# Altium schematic symbol library LIB_ADAPTONE_EMILE_LAPLANTE.SchLib: 4 symbols
Pins are listed as number, name and electrical type; pins without a type are passive.

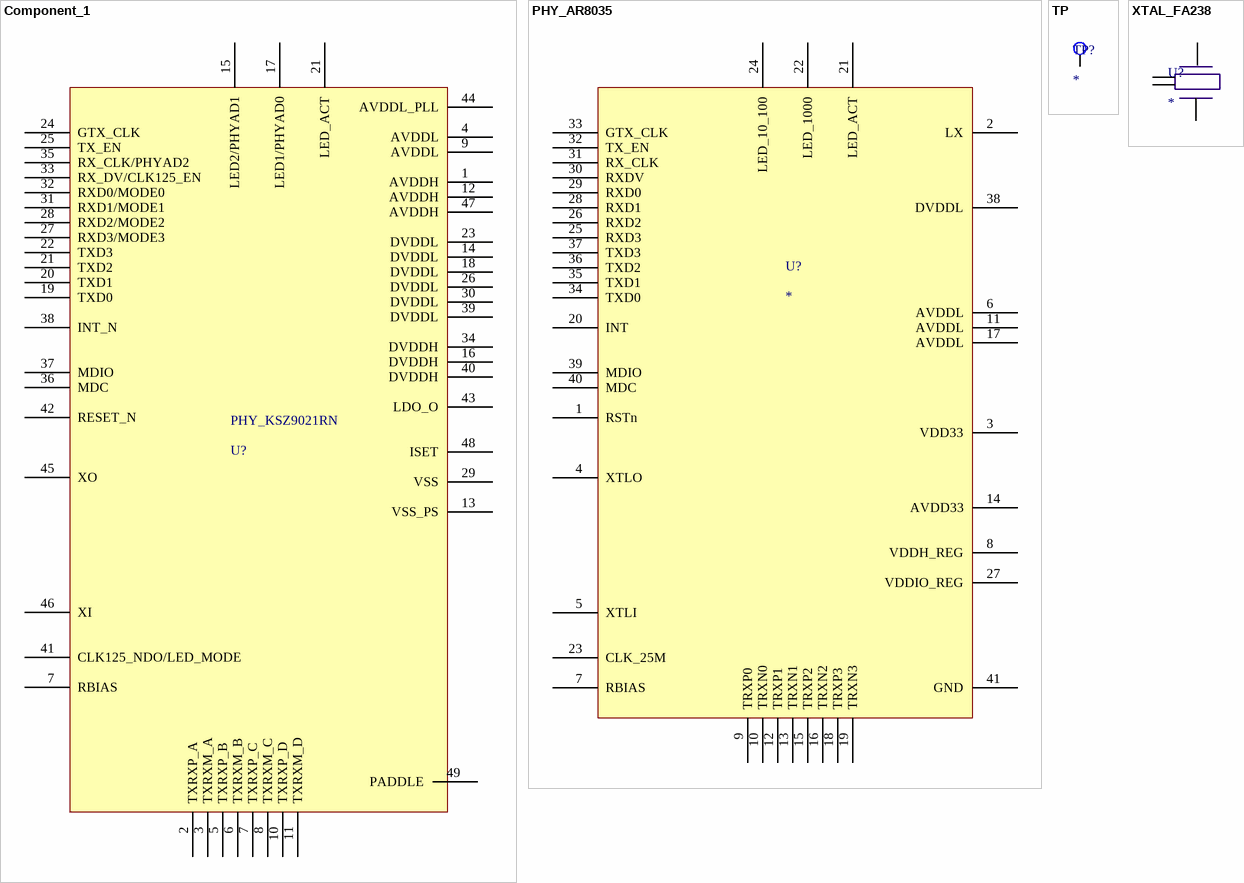
[diagram p0: symbols Component_1 to XTAL_FA238]

## Component_1
designator PHY_KSZ9021RN, comment U?
PHY Ethernet 1000MBPS
pins: 1 AVDDH, 2 TXRXP_A (power), 3 TXRXM_A (power), 4 AVDDL, 5 TXRXP_B (power), 6 TXRXM_B (power), 7 RBIAS (power), 7 TXRXP_C (power), 8 TXRXM_C (power), 9 AVDDL, 10 TXRXP_D (power), 11 TXRXM_D (power), 12 AVDDH, 13 VSS_PS, 14 DVDDL, 15 LED2/PHYAD1 (power), 16 DVDDH, 17 LED1/PHYAD0 (power), 18 DVDDL, 19 TXD0 (power), 20 TXD1 (power), 21 LED_ACT (power), 21 TXD2 (power), 22 TXD3 (power), 23 DVDDL, 24 GTX_CLK (power), 25 TX_EN (power), 26 DVDDL, 27 RXD3/MODE3 (power), 28 RXD2/MODE2 (power), 29 VSS, 30 DVDDL, 31 RXD1/MODE1 (power), 32 RXD0/MODE0 (power), 33 RX_DV/CLK125_EN (power), 34 DVDDH, 35 RX_CLK/PHYAD2 (power), 36 MDC (power), 37 MDIO (power), 38 INT_N (power), 39 DVDDL, 40 DVDDH, 41 CLK125_NDO/LED_MODE (power), 42 RESET_N (power), 43 LDO_O, 44 AVDDL_PLL, 45 XO (power), 46 XI (power), 47 AVDDH, 48 ISET, 49 PADDLE

## PHY_AR8035
designator U?
Mfg Part Number: AR8035-AL1A; Current: 249.2 mA; Mfg: Qualcomm; CreatedBy: Emile Laplante; HelpURL: https://media.digikey.com/pdf/Data%20Sheets/CSR%20PDFs/AR8035_DS_(Atheros)_Mar2011.pdf; NI: *; Package: 40-WFQFN Exposed Pad; Power: *; Supplier: Digikey; Supplier Part Numer: AR8035-AL1A-ND; Temperature: *; Value: *; VerifiedBy: *; Voltage: *
pins: 1 RSTn (power), 2 LX (power), 3 VDD33 (power), 4 XTLO (power), 5 XTLI (power), 6 AVDDL (power), 7 RBIAS (power), 8 VDDH_REG (power), 9 TRXP0 (power), 10 TRXN0 (power), 11 AVDDL (power), 12 TRXP1 (power), 13 TRXN1 (power), 14 AVDD33 (power), 15 TRXP2 (power), 16 TRXN2 (power), 17 AVDDL (power), 18 TRXP3 (power), 19 TRXN3 (power), 20 INT (power), 21 LED_ACT (power), 22 LED_1000 (power), 23 CLK_25M (power), 24 LED_10_100 (power), 25 RXD3 (power), 26 RXD2 (power), 27 VDDIO_REG (power), 28 RXD1 (power), 29 RXD0 (power), 30 RXDV (power), 31 RX_CLK (power), 32 TX_EN (power), 33 GTX_CLK (power), 34 TXD0 (power), 35 TXD1 (power), 36 TXD2 (power), 37 TXD3 (power), 38 DVDDL (power), 39 MDIO (power), 40 MDC (power), 41 GND (power)

## TP
designator TP?
pins: 1

## XTAL_FA238
designator U?
Mfg Part Number: FA-238 25.0000MB-K3; Mfg: EPSON; Value: 25.00 MHz; CreatedBy: Emile Laplante; HelpURL: https://www.digikey.ca/product-detail/en/epson/FA-238-25.0000MB-K3/SER3692CT-ND/2403465; NI: *; Package: 40-WFQFN Exposed Pad; Power: *; Supplier: Digikey; Supplier Part Numer: SER3692CT-ND; Temperature: -40 C to 125 C; VerifiedBy: *; Voltage: *
pins: 1, 2, 2, 4